# EAGLE library part TSC2008TRGVRQ1 (library circuit_tree)
IC
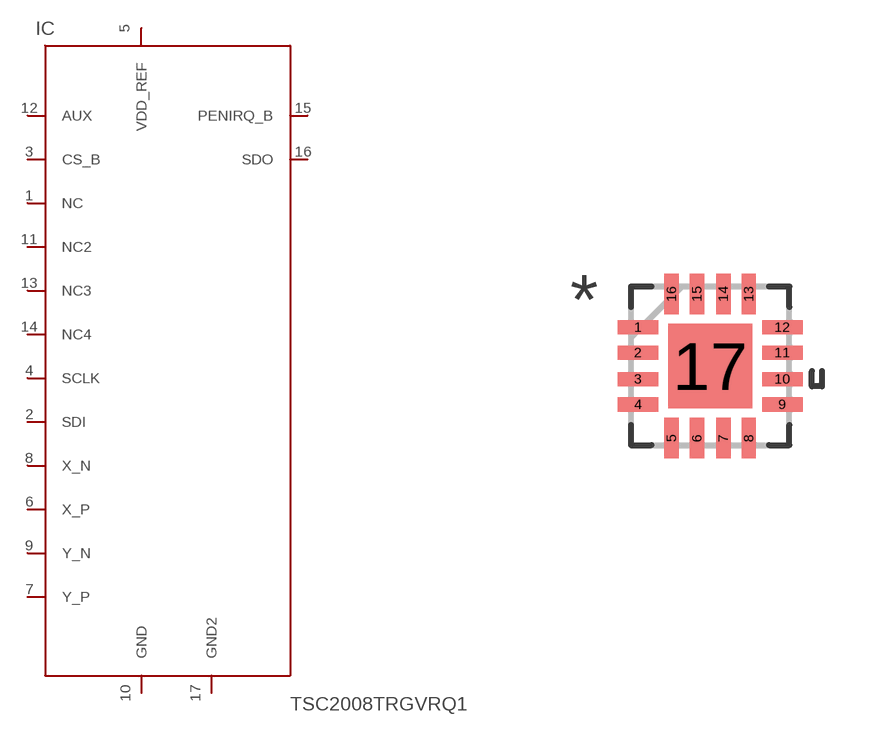
[diagram p11: symbol with the pads of QFN65P400X400X100-17N; footprint QFN65P400X400X100-17N]

Designator prefix IC

## TSC2008TRGVRQ1  [QFN65P400X400X100-17N]
1  NC  pas
2  SDI  pas
3  CS_B  pas
4  SCLK  pas
5  VDD_REF  pas
6  X_P  pas
7  Y_P  pas
8  X_N  pas
9  Y_N  pas
10  GND  pas
11  NC2  pas
12  AUX  pas
13  NC3  pas
14  NC4  pas
15  PENIRQ_B  pas
16  SDO  pas
17  GND2  pas

## Footprint QFN65P400X400X100-17N (pad centres in mm)
smd 1.016 x 0.356: 1 -1.803,0.965; 2 -1.803,0.33; 3 -1.803,-0.33; 4 -1.803,-0.965; 9 1.803,-0.965; 10 1.803,-0.33; 11 1.803,0.33; 12 1.803,0.965
smd 0.356 x 1.016: 5 -0.965,-1.803; 6 -0.33,-1.803; 7 0.33,-1.803; 8 0.965,-1.803; 13 0.965,1.803; 14 0.33,1.803; 15 -0.33,1.803; 16 -0.965,1.803
smd 2.108 x 2.108: 17 0,0